# EAGLE library part USD-SPI (library greg)
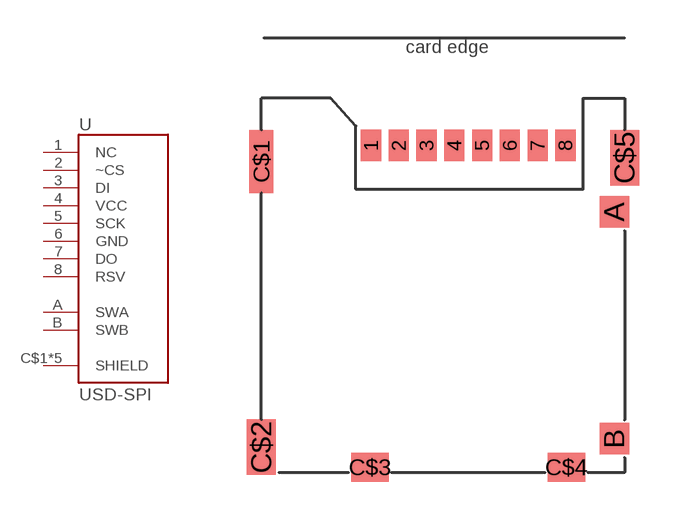
[diagram p22: symbol with the pads of MSD-5031821853; footprint MSD-5031821853]

Designator prefix -

## USD-SPIMOLEX-5031821853  [MSD-5031821853]
1  NC
2  ~CS
3  DI
4  VCC
5  SCK
6  GND
7  DO
8  RSV
A  SWA
B  SWB
C$1  SHIELD
C$2  SHIELD
C$3  SHIELD
C$4  SHIELD
C$5  SHIELD

## Footprint MSD-5031821853 (pad centres in mm)
smd 0.8 x 1.24: 1 -2.9,5.73; 2 -1.8,5.73; 3 -0.7,5.73; 4 0.4,5.73; 5 1.5,5.73; 6 2.6,5.73; 7 3.7,5.73; 8 4.8,5.73
smd 1.16 x 1.25: A 6.74,3.1; B 6.74,-5.9
smd 0.95 x 2.5: C$1 -7.245,5.1
smd 1.15 x 2.2: C$2 -7.245,-6.23; C$5 7.145,5.25
smd 1.5 x 1.15: C$3 -2.94,-7.025; C$4 4.84,-7.025